# Altium schematic symbol library L-1334IT.SchLib: 1 symbol
Pins are listed as number, name and electrical type; pins without a type are passive.

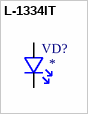
[diagram p0: symbol L-1334IT]

## L-1334IT
designator VD?
LED 3 mm size, Red.; MF: Kingbright; MP: KP-2012SGC; Check_prices: *; SnapEDA_Link: *; Availability: Unavailable; Package: 0805; Price: None; Value: *
footprint L-1334IT (Footprint not found)
pins: 1, 2